# Altium footprint library HyTechDevices.PCBLIB: 209 footprints (part 14 of 14)
Each footprint in its own frame and in the unit in brackets; x right, y up, seen from the top. Pads: shape width x height; smd on the part's side, far side on the other; paste and mask are expansions set on the pad; w line width, h text height; cw(c..) or ccw(c..) is an arc to the next point about the centre after c.
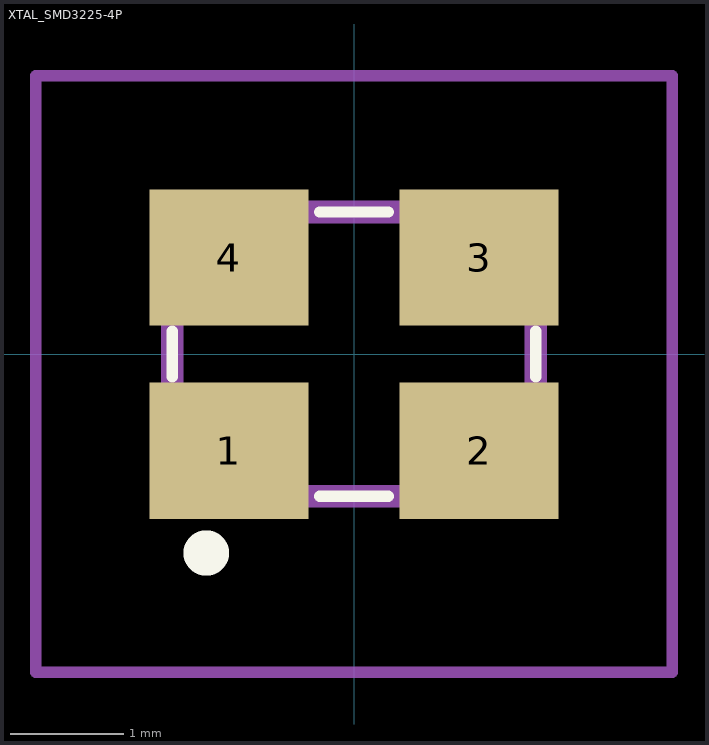
[diagram p13: the footprint, top view; thin cyan lines are the x and y axes]

## XTAL_SMD3225-4P [mm]
pads (4):
  rect 1.4x1.2 smd: 1(-1.1,-0.85) 2(1.1,-0.85) 3(1.1,0.85) 4(-1.1,0.85)
Top Overlay:
  lines w0.1: -1.6,-0.2 -1.6,0.2 ; -0.3,-1.25 0.3,-1.25 ; -0.3,1.25 0.3,1.25 ; 1.6,-0.2 1.6,0.2
  lines w0.3: -1.3,-1.8 ccw(c-1.3,-1.75) -1.3,-1.7 ccw(c-1.3,-1.75) -1.3,-1.8
Unrouted:
  lines w0.2: -1.6,-1.25 -1.6,1.25 1.6,1.25 1.6,-1.25 -1.6,-1.25
Reference:
  lines w0.1: -2.8,-2.8 -2.8,2.45 2.8,2.45 2.8,-2.8 -2.8,-2.8
3D body "X322512MSB4SI.stp": height 0.7, standoff 0, extent -1.6,-1.25 1.6,1.25